# EAGLE library part EDSTLZ-13 (library con-ost)
ON-SHORE
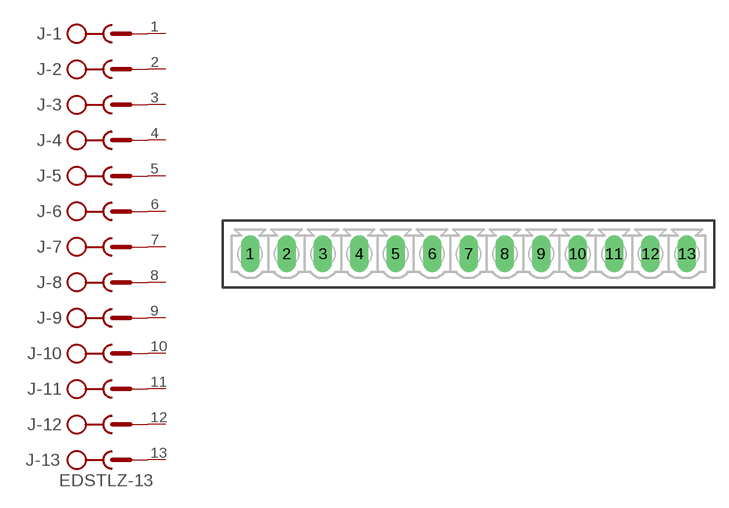
[diagram p7: symbol with the pads of 1555-13; footprint 1555-13]

Designator prefix J; gates -1=SK -2=SK -3=SK -4=SK -5=SK -6=SK -7=SK -8=SK -9=SK -10=SK -11=SK -12=SK -13=SKV

## EDSTLZ-13-1555  [1555-13]
1  -1:SK  pas
2  -2:SK  pas
3  -3:SK  pas
4  -4:SK  pas
5  -5:SK  pas
6  -6:SK  pas
7  -7:SK  pas
8  -8:SK  pas
9  -9:SK  pas
10  -10:SK  pas
11  -11:SK  pas
12  -12:SK  pas
13  -13:SK  pas

## Footprint 1555-13 (pad centres in mm)
Connector Vertical pitch 0.15" (3.81 mm)
drill 1.27 pad 1.93 long: 1 -22.86,0; 2 -19.05,0; 3 -15.24,0; 4 -11.43,0; 5 -7.62,0; 6 -3.81,0; 7 0,0; 8 3.81,0; 9 7.62,0; 10 11.43,0; 11 15.24,0; 12 19.05,0; 13 22.86,0